# EAGLE library part LM2736X (library Components)
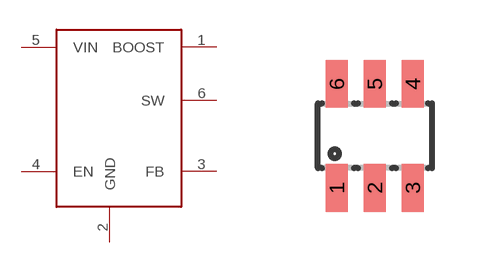
[diagram p1: symbol with the pads of SOT23-6L; footprint SOT23-6L]

Designator prefix -

## LM2736X  [SOT23-6L]
1  BOOST
2  GND
3  FB
4  EN
5  VIN
6  SW

## Footprint SOT23-6L (pad centres in mm)
Small Outline Transistor
smd 0.55 x 1.2: 1 -0.95,-1.3; 2 0,-1.3; 3 0.95,-1.3; 4 0.95,1.3; 5 0,1.3; 6 -0.95,1.3